# Altium footprint library PCB - POWER - NXJ2-5V12V.PCBLIB: 1 footprints
Each footprint in its own frame and in the unit in brackets; x right, y up, seen from the top. Pads: shape width x height; smd on the part's side, far side on the other; paste and mask are expansions set on the pad; w line width, h text height; cw(c..) or ccw(c..) is an arc to the next point about the centre after c.
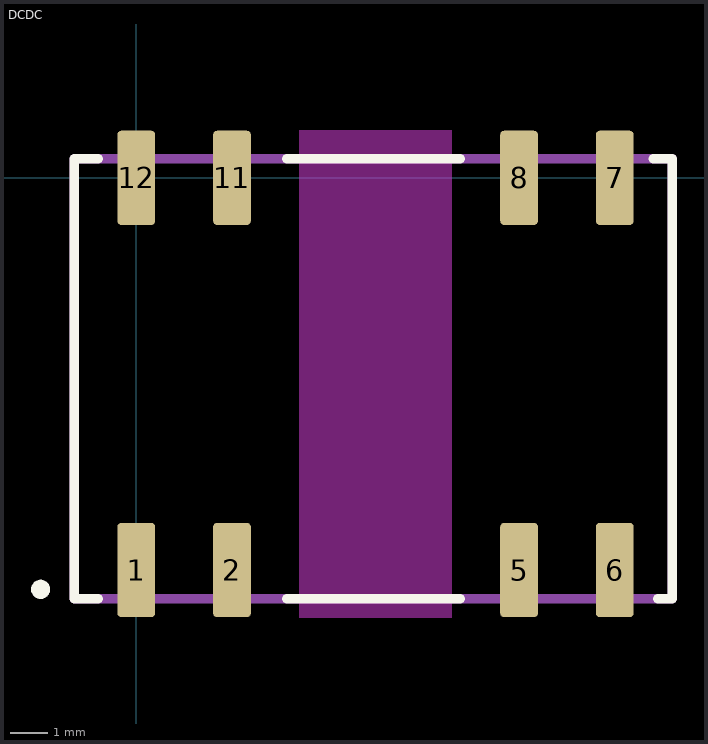
[diagram p0: the footprint, top view; thin cyan lines are the x and y axes]

## DCDC [mm]
pads (8):
  rrect20% 1x2.5 smd: 1(0,-10.41) 2(2.54,-10.41) 5(10.16,-10.41) 6(12.7,-10.41) 7(12.7,0) 8(10.16,0) 11(2.54,0) 12(0,0)
Top Overlay:
  circle w0.254: c-2.54,-10.922 r0.127
  lines w0.254: -1.016,-11.176 -1.651,-11.176 -1.651,0.508 -1.016,0.508 ; 4,-11.176 8.6,-11.176 ; 4,0.508 8.6,0.508 ; 13.716,0.508 14.224,0.508 14.224,-11.176 13.843,-11.176
Keep-Out Layer:
  rectangle: 4.318,-11.684 8.382,1.27
Top Assembly:
  lines w0.254: -1.651,-11.176 14.224,-11.176 14.224,0.508 -1.651,0.508 -1.651,-11.176
3D body "mps_dcdc_nxj2_5v_12v_mc_a.step": height 4.23, standoff -0.18, extent -1.651,-10.922 13.843,0.508